# EAGLE library part LTC4000-1(B) (library SeniorDesign)
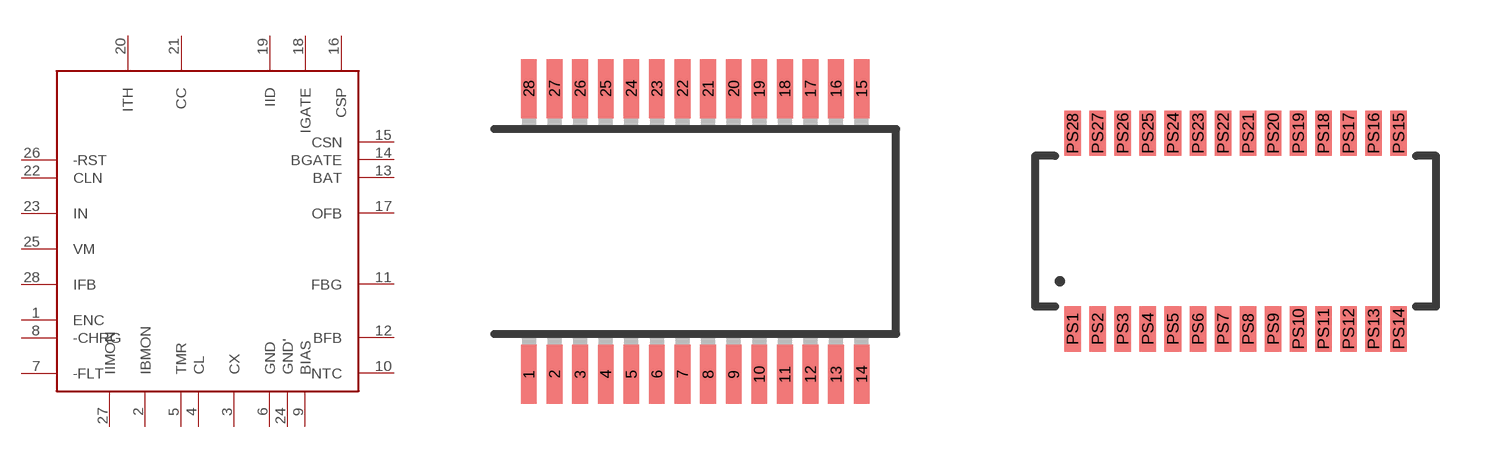
[diagram p1: symbol with the pads of SSOP28; footprints SSOP28, SSOP-28_GN]

Designator prefix -

## LTC4000-1(B)  [SSOP28]
1  ENC
2  IBMON
3  CX
4  CL
5  TMR
6  GND
7  -FLT
8  -CHRG
9  BIAS
10  NTC
11  FBG
12  BFB
13  BAT
14  BGATE
15  CSN
16  CSP
17  OFB
18  IGATE
19  IID
20  ITH
21  CC
22  CLN
23  IN
24  GND'
25  VM
26  -RST
27  IIMON
28  IFB

## LTC4000-1(B)GN  [SSOP-28_GN]
PS1  ENC
PS2  IBMON
PS3  CX
PS4  CL
PS5  TMR
PS6  GND
PS7  -FLT
PS8  -CHRG
PS9  BIAS
PS10  NTC
PS11  FBG
PS12  BFB
PS13  BAT
PS14  BGATE
PS15  CSN
PS16  CSP
PS17  OFB
PS18  IGATE
PS19  IID
PS20  ITH
PS21  CC
PS22  CLN
PS23  IN
PS24  GND'
PS25  VM
PS26  -RST
PS27  IIMON
PS28  IFB

## Footprint SSOP28 (pad centres in mm)
Shrink Small Outline Package package type SS
smd 0.4 x 1.5: 1 -4.225,-3.625; 2 -3.575,-3.625; 3 -2.925,-3.625; 4 -2.275,-3.625; 5 -1.625,-3.625; 6 -0.975,-3.625; 7 -0.325,-3.625; 8 0.325,-3.625; 9 0.975,-3.625; 10 1.625,-3.625; 11 2.275,-3.625; 12 2.925,-3.625; 13 3.575,-3.625; 14 4.225,-3.625; 15 4.225,3.625; 16 3.575,3.625; 17 2.925,3.625; 18 2.275,3.625; 19 1.625,3.625; 20 0.975,3.625; 21 0.325,3.625; 22 -0.325,3.625; 23 -0.975,3.625; 24 -1.625,3.625; 25 -2.275,3.625; 26 -2.925,3.625; 27 -3.575,3.625; 28 -4.225,3.625

## Footprint SSOP-28_GN (pad centres in mm)
smd 0.419 x 1.143: PS1 -4.128,-2.477; PS2 -3.493,-2.477; PS3 -2.857,-2.477; PS4 -2.223,-2.477; PS5 -1.587,-2.477; PS6 -0.953,-2.477; PS7 -0.318,-2.477; PS8 0.318,-2.477; PS9 0.953,-2.477; PS10 1.587,-2.477; PS11 2.223,-2.477; PS12 2.857,-2.477; PS13 3.493,-2.477; PS14 4.128,-2.477; PS15 4.128,2.477; PS16 3.493,2.477; PS17 2.857,2.477; PS18 2.223,2.477; PS19 1.587,2.477; PS20 0.953,2.477; PS21 0.318,2.477; PS22 -0.318,2.477; PS23 -0.953,2.477; PS24 -1.587,2.477; PS25 -2.223,2.477; PS26 -2.857,2.477; PS27 -3.493,2.477; PS28 -4.128,2.477